# Altium schematic symbol library components.SchLib: 8 symbols
Pins are listed as number, name and electrical type; pins without a type are passive.

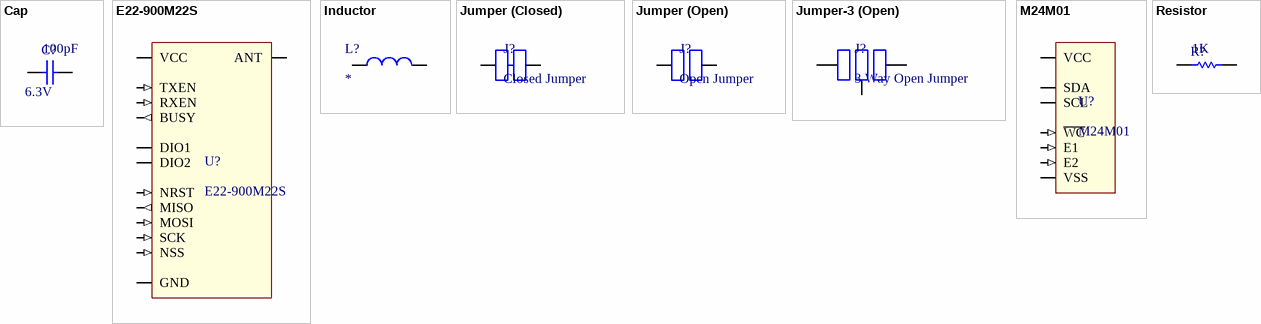
[diagram p0: symbols Cap to Resistor]

## Cap
designator C?  value 100pF  Voltage: 6.3V
Capacitor
simulation model CAP (Capacitor)
signal-integrity model Cap
footprint 0603 (1608M) (Chip Resistor, Body 1.6x0.8mm, IPC High Density)
footprint 0805 (2012M) (0805 Footprint)
footprint 1206 (3216M) (1206 Footprint)
footprint 1210 (3225M) (Chip Capacitor, Body 3.2x2.5mm, IPC Low Density)
footprint 0402 (1005M) (Chip Capacitor, Body 1.0x0.5mm, IPC High Density)
pins: 1, 2

## E22-900M22S
designator U?
SX1262-based Wireless Module; ComponentLink1Description: Product Page; ComponentLink1URL: http://www.ebyte.com/en/product-view-news.aspx?id=437
footprint E22-900M22S
pins: 1 GND (power), 2 GND (power), 3 GND (power), 4 GND (power), 5 GND (power), 6 RXEN (in), 7 TXEN (in), 8 DIO2 (io), 9 VCC (power), 10 GND (power), 11 GND (power), 12 GND (power), 13 DIO1 (io), 14 BUSY (out), 15 NRST (in), 16 MISO (out), 17 MOSI (in), 18 SCK (in), 19 NSS (in), 20 GND (power), 21 ANT, 22 GND (power)

## Inductor
designator L?
footprint LPS3010 (Shielded SMT Power Inductors – LPS3010 Series)
footprint 0402 (1005M) (Chip Capacitor, Body 1.0x0.5mm, IPC High Density)
pins: 1, 2

## Jumper (Closed)
designator J?, comment Closed Jumper  (net tie, no BOM)
footprint Jumper (Close)
pins: 1, 2

## Jumper (Open)
designator J?, comment Open Jumper  (no BOM)
footprint Jumper (Open)
pins: 1, 2

## Jumper-3 (Open)
designator J?, comment 3 Way Open Jumper  (no BOM)
footprint Jumper-3 (Open)
pins: 1, 2, 3

## M24M01
designator U?
EEPROM Memory IC 1Mb (128K x 8) I²C 1MHz 500ns 8-TSSOP
footprint TSSOP-8
pins: 2 E1 (in), 3 E2 (in), 4 VSS (power), 5 SDA (io), 6 SCL (io), 7 ~{WC} (in), 8 VCC (power)

## Resistor
designator R?  value 1K
Resistor; Tolerance: 5%; Published: 8-Jun-2000; LatestRevisionDate: 17-Jul-2002; LatestRevisionNote: Re-released for DXP Platform.; PackageReference: AXIAL-0.3; Publisher: Altium Limited; PackageDescription: Axial Device, Thru-Hole; 2 Leads; 0.3 in Pin Spacing
simulation model RESISTOR (Resistor)
signal-integrity model Res
footprint 0603 (1608M) (Chip Resistor, Body 1.6x0.8mm, IPC High Density)
footprint 0805 (2012M) (0805 Footprint)
footprint 0402 (1005M) (Chip Capacitor, Body 1.0x0.5mm, IPC High Density)
pins: 1, 2